# Altium footprint library drfc_pcblib.PcbLib: 18 footprints (part 2 of 2)
Each footprint in its own frame and in the unit in brackets; x right, y up, seen from the top. Pads: shape width x height; smd on the part's side, far side on the other; paste and mask are expansions set on the pad; w line width, h text height; cw(c..) or ccw(c..) is an arc to the next point about the centre after c.
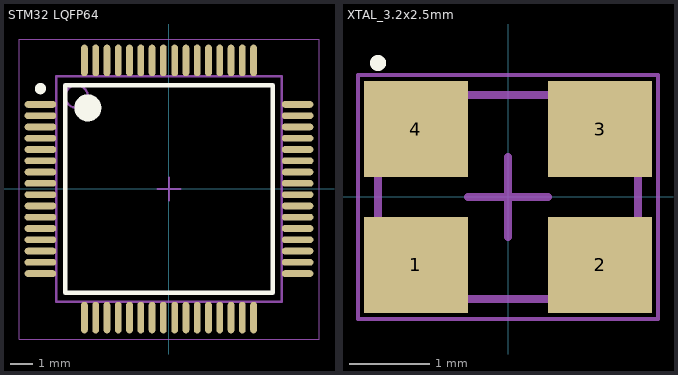
[diagram p1: the footprints below, top view; thin cyan lines are the x and y axes]

## STM32 LQFP64 [mm] "TSQFP, 64-Leads, Body 10.00x10.00mm, Pitch 0.50mm, IPC Medium Density"
height 1.6
pads (64):
  oval 1.4x0.3 smd: 1(-5.7,3.75) 2(-5.7,3.25) 3(-5.7,2.75) 4(-5.7,2.25) 5(-5.7,1.75) 6(-5.7,1.25) 7(-5.7,0.75) 8(-5.7,0.25) 9(-5.7,-0.25) 10(-5.7,-0.75) 11(-5.7,-1.25) 12(-5.7,-1.75) 13(-5.7,-2.25) 14(-5.7,-2.75) 15(-5.7,-3.25) 16(-5.7,-3.75) 33(5.7,-3.75) 34(5.7,-3.25) 35(5.7,-2.75) 36(5.7,-2.25) 37(5.7,-1.75) 38(5.7,-1.25) 39(5.7,-0.75) 40(5.7,-0.25) 41(5.7,0.25) 42(5.7,0.75) 43(5.7,1.25) 44(5.7,1.75) 45(5.7,2.25) 46(5.7,2.75) 47(5.7,3.25) 48(5.7,3.75)
  oval 0.3x1.4 smd: 17(-3.75,-5.7) 18(-3.25,-5.7) 19(-2.75,-5.7) 20(-2.25,-5.7) 21(-1.75,-5.7) 22(-1.25,-5.7) 23(-0.75,-5.7) 24(-0.25,-5.7) 25(0.25,-5.7) 26(0.75,-5.7) 27(1.25,-5.7) 28(1.75,-5.7) 29(2.25,-5.7) 30(2.75,-5.7) 31(3.25,-5.7) 32(3.75,-5.7) 49(3.75,5.7) 50(3.25,5.7) 51(2.75,5.7) 52(2.25,5.7) 53(1.75,5.7) 54(1.25,5.7) 55(0.75,5.7) 56(0.25,5.7) 57(-0.25,5.7) 58(-0.75,5.7) 59(-1.25,5.7) 60(-1.75,5.7) 61(-2.25,5.7) 62(-2.75,5.7) 63(-3.25,5.7) 64(-3.75,5.7)
Top Overlay:
  circle w0.25: c-5.7,4.45 r0.125
  circle w0.6: c-3.6,3.6 r0.3
  lines w0.2: -4.6,-4.6 -4.6,4.6 4.6,4.6 4.6,-4.6 -4.6,-4.6
Mechanical 13:
  circle w0.1: c-4.1,4.1 r0.5
  lines w0.1: -5,-5 -5,5 5,5 5,-5 -5,-5
Mechanical 15:
  lines w0.05: -6.65,-6.65 -6.65,6.65 6.65,6.65 6.65,-6.65 -6.65,-6.65
  lines w0.1: -0.5,0 0.5,0 ; 0,-0.5 0,0.5
3D body "STM32 LQFP64.step": height 1.6, standoff 0, extent -6,-6 6,6

## XTAL_3.2x2.5mm [mm] "QUARTZ CRYSTAL SMD 3.2X2.5MM CERAMIC SEAM SEAL PACKAGE"
height 0.8
pads (4):
  rect 1.3x1.2 smd: 1(-1.15,-0.85) 2(1.15,-0.85) 3(1.15,0.85) 4(-1.15,0.85)
Top Overlay:
  circle w0.1: c-1.625,1.675 r0.05
Mechanical 13:
  lines w0.1: -1.625,-1.275 -1.625,1.275 1.625,1.275 1.625,-1.275 -1.625,-1.275
Mechanical 15:
  lines w0.05: -1.875,-1.525 -1.875,1.525 1.875,1.525 1.875,-1.525 -1.875,-1.525
  lines w0.1: -0.5,0 0.5,0 ; 0,-0.5 0,0.5
3D body "XTAL_3.2x2.5mm.step": height 0.8, standoff 0, extent -1.625,-1.275 1.625,1.275